# EAGLE library part MOLEX18 (library usb)
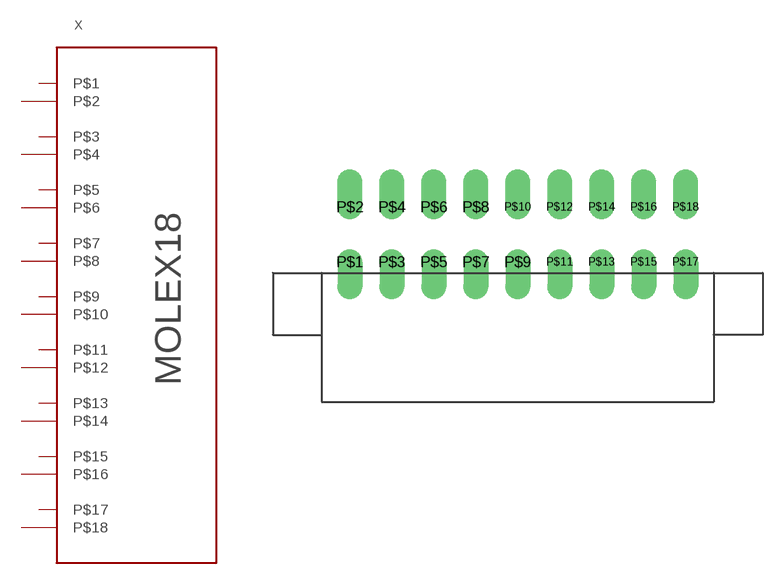
[diagram p4: symbol with the pads of MOLEX18; footprint MOLEX18]

Designator prefix X

## MOLEX18  [MOLEX18]
P$1  P$1
P$2  P$2
P$3  P$3
P$4  P$4
P$5  P$5
P$6  P$6
P$7  P$7
P$8  P$8
P$9  P$9
P$10  P$10
P$11  P$11
P$12  P$12
P$13  P$13
P$14  P$14
P$15  P$15
P$16  P$16
P$17  P$17
P$18  P$18

## Footprint MOLEX18 (pad centres in mm)
drill 0.5 pad 2.5 offset: P$1 -16.8,0; P$2 -16.8,5.5; P$3 -12.6,0; P$4 -12.6,5.5; P$5 -8.4,0; P$6 -8.4,5.5; P$7 -4.2,0; P$8 -4.2,5.5; P$9 0,0; P$10 0,5.5; P$11 4.2,0; P$12 4.2,5.5; P$13 8.4,0; P$14 8.4,5.5; P$15 12.6,0; P$16 12.6,5.5; P$17 16.8,0; P$18 16.8,5.5